# Altium footprint library DC-IN-TH_DC-042C-Z-2.5-A.PcbLib: 1 footprints
Each footprint in its own frame and in the unit in brackets; x right, y up, seen from the top. Pads: shape width x height; smd on the part's side, far side on the other; paste and mask are expansions set on the pad; w line width, h text height; cw(c..) or ccw(c..) is an arc to the next point about the centre after c.
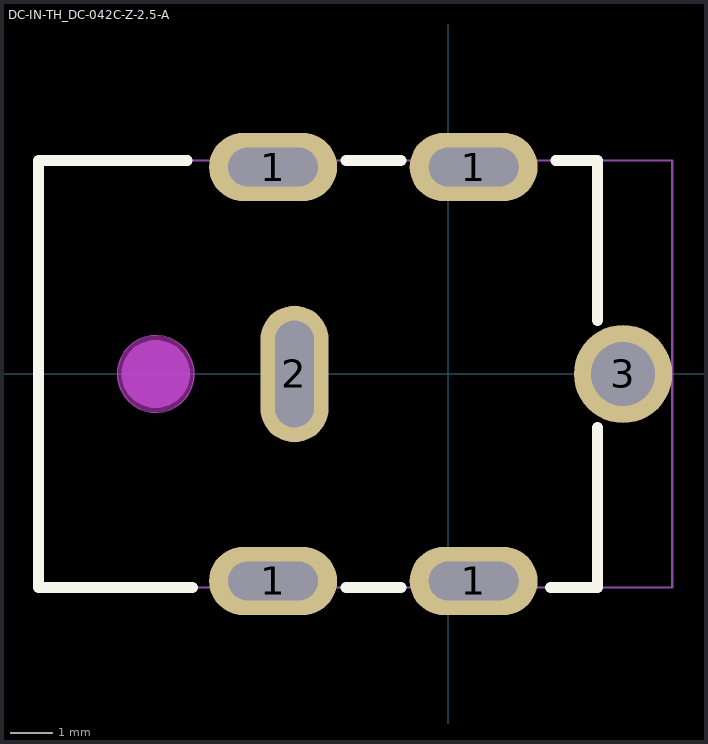
[diagram p0: the footprint, top view; thin cyan lines are the x and y axes]

## DC-IN-TH_DC-042C-Z-2.5-A [mm]
pads (6):
  oval 3x1.6 hole 0.9 slot 2.1 at 0 deg copper offset 0,0: 1(-4.1,-4.85) 1(-4.1,4.85) 1(0.6,-4.85) 1(0.6,4.85)
  oval 1.6x3.2 hole 0.9 slot 2.5 at 90 deg: 2(-3.6,0)
  round 2.3 hole 1.5 copper offset 0,0: 3(4.1,0)
Top Overlay:
  lines w0.254: -6.112,5 -9.6,5 -9.6,-5 -5.985,-5 ; -2.395,-5 -1.105,-5 ; -2.395,5 -1.105,5 ; 2.397,-5 3.5,-5 3.5,-1.25 ; 2.524,5 3.5,5 3.5,1.25
Keep-Out Layer:
  board cut-out: -5.95,0 -5.95,0.119 -6.011,0.348 -6.13,0.553 -6.298,0.72 -6.503,0.839 -6.732,0.9 -6.969,0.9 -7.198,0.839 -7.403,0.72 -7.57,0.553 -7.689,0.347 -7.75,0.119 -7.75,0 -7.75,-0.118 -7.689,-0.347 -7.57,-0.553 -7.403,-0.72 -7.198,-0.839 -6.969,-0.9 -6.732,-0.9 -6.503,-0.839 -6.298,-0.72 -6.13,-0.552 -6.011,-0.347 -5.95,-0.118 -5.95,0
Mechanical 1:
  circle w0.005: c-6.85,0 r0.9
Mechanical 15:
  region: -6.05,0 -6.051,0.105 -6.108,0.306 -6.214,0.486 -6.362,0.633 -6.544,0.736 -6.746,0.79 -6.955,0.79 -7.156,0.736 -7.338,0.633 -7.487,0.486 -7.593,0.306 -7.649,0.105 -7.65,0 -7.649,-0.104 -7.593,-0.306 -7.487,-0.486 -7.338,-0.632 -7.156,-0.736 -6.955,-0.79 -6.746,-0.79 -6.544,-0.736 -6.362,-0.632 -6.214,-0.486 -6.108,-0.306 -6.051,-0.104 -6.05,0
  region: 1.2,4.49 0,4.49 0,5.21 1.2,5.21
  region: -3.5,4.49 -4.7,4.49 -4.7,5.21 -3.5,5.21
  region: 1.2,-5.21 0,-5.21 0,-4.49 1.2,-4.49
  region: -3.5,-5.21 -4.7,-5.21 -4.7,-4.49 -3.5,-4.49
  region: 4.75,0 4.749,0.129 4.649,0.365 4.466,0.546 4.229,0.644 3.972,0.644 3.734,0.546 3.551,0.365 3.451,0.129 3.45,0 3.451,-0.128 3.551,-0.365 3.734,-0.546 3.972,-0.644 4.229,-0.644 4.466,-0.546 4.649,-0.365 4.749,-0.128 4.75,0
  region: -3.96,-0.8 -3.96,0.8 -3.24,0.8 -3.24,-0.8
  region: -9.54,-5 -9.54,-4.975 -9.575,-4.94 -9.625,-4.94 -9.66,-4.975 -9.66,-5 -9.66,-5.025 -9.625,-5.06 -9.575,-5.06 -9.54,-5.025 -9.54,-5
  lines w0.051: -9.6,-5 -9.6,5 5.25,5 5.25,-5 -9.6,-5
Multi-Layer keep-out:
  region: -5.95,0 -5.95,0.119 -6.011,0.348 -6.13,0.553 -6.298,0.72 -6.503,0.839 -6.732,0.9 -6.969,0.9 -7.198,0.839 -7.403,0.72 -7.57,0.553 -7.689,0.347 -7.75,0.119 -7.75,0 -7.75,-0.118 -7.689,-0.347 -7.57,-0.553 -7.403,-0.72 -7.198,-0.839 -6.969,-0.9 -6.732,-0.9 -6.503,-0.839 -6.298,-0.72 -6.13,-0.552 -6.011,-0.347 -5.95,-0.118 -5.95,0